# Altium schematic symbol library TPS51200.SchLib: 1 symbol
Pins are listed as number, name and electrical type; pins without a type are passive.

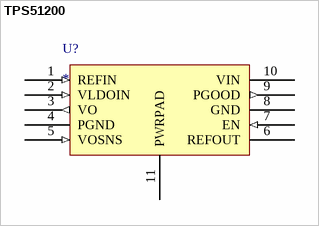
[diagram p0: symbol TPS51200]

## TPS51200
designator U?
TPS51200 DDR Termination Regulator
pins: 1 REFIN (in), 2 VLDOIN (in), 3 VO (out), 4 PGND (power), 5 VOSNS (in), 6 REFOUT (power), 7 EN (in), 8 GND (power), 9 PGOOD (out), 10 VIN (power), 11 PWRPAD (power)